# Altium footprint library SHDR10W64P254X254_2X5_2036X885X900P.PcbLib: 1 footprints
Each footprint in its own frame and in the unit in brackets; x right, y up, seen from the top. Pads: shape width x height; smd on the part's side, far side on the other; paste and mask are expansions set on the pad; w line width, h text height; cw(c..) or ccw(c..) is an arc to the next point about the centre after c.
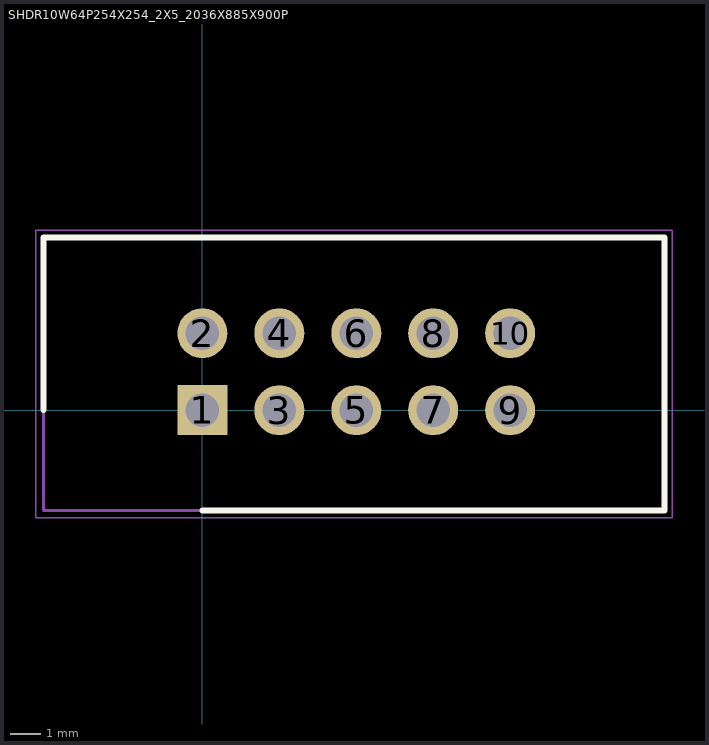
[diagram p0: the footprint, top view; thin cyan lines are the x and y axes]

## SHDR10W64P254X254_2X5_2036X885X900P [mm]
pads (10):
  rect 1.65x1.65 / inner round 1.65 / far side rect 1.65x1.65 hole 1.1: 1(0,0)
  round 1.65 hole 1.1: 2(0,2.54) 3(2.54,0) 4(2.54,2.54) 5(5.08,0) 6(5.08,2.54) 7(7.62,0) 8(7.62,2.54) 9(10.16,0) 10(10.16,2.54)
L26-Silk Screen Top (Multiple PADS layers...):
  lines w0.2: -5.25,0 -5.25,5.695 15.26,5.695 15.26,-3.305 0,-3.305
L15 (Multiple PADS layers...):
  lines w0.1: -5.25,-3.305 -5.25,5.695 15.26,5.695 15.26,-3.305 -5.25,-3.305
L20:
  lines w0.05: -5.5,-3.555 -5.5,5.945 15.51,5.945 15.51,-3.555 -5.5,-3.555